# EAGLE library part 61301221121 (library Eagle_BOARD-TO-BOARD_CONNECTORS (rev18b))
WR-PHD 2.54mm Dual Pin Header, 12 Pins =>Code : Con_BTB_PHD_2.54_2_61301221121 <http://katalog.we-online.de/media/images/eican/Con_BTB_PHD_2.54_2_6130xx21121_pf2.jpg> Details see: http://katalog.we-online.de/en/em/613_0xx_211_21 Created 2014-05-29, Karrer Zheng 2014 (C) Würth Elektronik
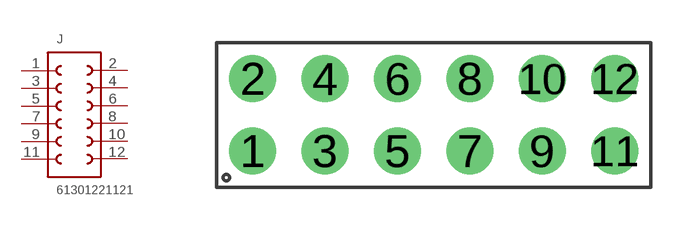
[diagram p21: symbol with the pads of 61301221121; footprint 61301221121]

Designator prefix J

## 61301221121  [61301221121]
1  1  pas
2  12  pas
3  2  pas
4  11  pas
5  3  pas
6  10  pas
7  4  pas
8  9  pas
9  5  pas
10  8  pas
11  6  pas
12  7  pas

## Footprint 61301221121 (pad centres in mm)
WR-PHD 2.54mm Dual Pin Header, 12 Pins
drill 1.1: 1 -6.35,-1.27; 2 -6.35,1.27; 3 -3.81,-1.27; 4 -3.81,1.27; 5 -1.27,-1.27; 6 -1.27,1.27; 7 1.27,-1.27; 8 1.27,1.27; 9 3.81,-1.27; 10 3.81,1.27; 11 6.35,-1.27; 12 6.35,1.27